# Altium integrated library PC817X2NIP0F.IntLib: 1 symbol
Pins are listed as number, name and electrical type; pins without a type are passive.

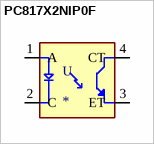
[diagram p0: symbol PC817X2NIP0F]

## PC817X2NIP0F
designator U
Optoisolator Transistor Output 5000Vrms 1 Channel 4-SMD; MP: PC817X2NIP0F; MF: Sharp Microelectronics; Availability: Unavailable; Package: SMD-4 Sharp; SnapEDA_Link: https://www.snapeda.com/parts/PC817X2NIP0F/Sharp%20Microelectronics/view-part/2874099/?ref=snap; Value: *; Price: None
footprint SOT254P975X400-4N
pins: 1 A, 2 C, 3 ET, 4 CT